# Altium footprint library ABC.PcbLib: 20 footprints (part 2 of 2)
Each footprint in its own frame and in the unit in brackets; x right, y up, seen from the top. Pads: shape width x height; smd on the part's side, far side on the other; paste and mask are expansions set on the pad; w line width, h text height; cw(c..) or ccw(c..) is an arc to the next point about the centre after c.
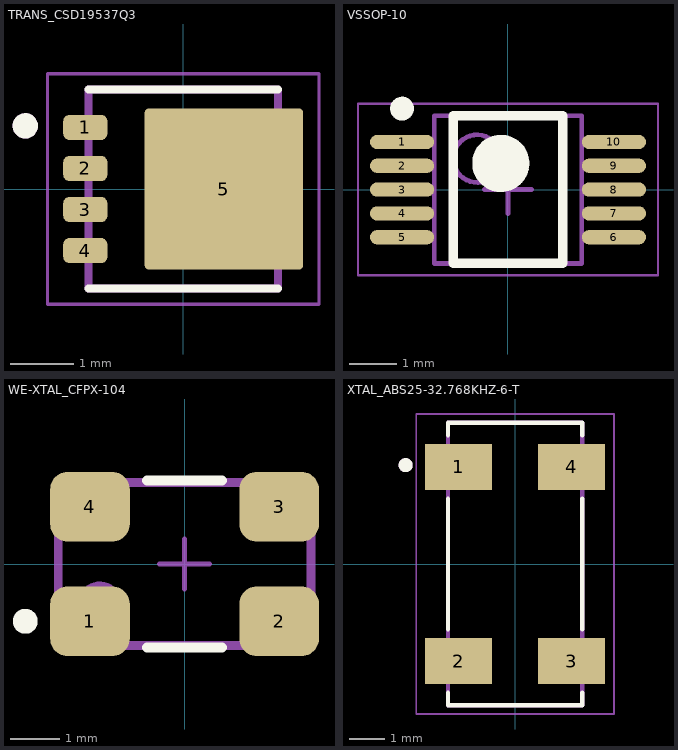
[diagram p1: the footprints below, top view; thin cyan lines are the x and y axes]

## TRANS_CSD19537Q3 [mm]
height 5.5
pads (5):
  rrect50% 0.7x0.4 smd: 1(-1.55,0.975) 2(-1.55,0.325) 3(-1.55,-0.325) 4(-1.55,-0.975)
  rrect5% 2.51x2.55 smd paste+0: 5(0.645,0)
Top Overlay:
  circle w0.2: c-2.5,1 r0.1
  lines w0.127: -1.5,-1.575 1.5,-1.575 ; -1.5,1.575 1.5,1.575
Top Component Outline:
  lines w0.127: -1.5,-1.575 -1.5,1.575 1.5,1.575 1.5,-1.575 -1.5,-1.575
Top Courtyard:
  lines w0.05: -2.15,-1.825 2.15,-1.825 2.15,1.825 -2.15,1.825 -2.15,-1.825
Top 3D Body:
  circle w0.2: c-2.5,1 r0.1
3D body "CSD18543Q3A.STEP": height 0.9, standoff 0, extent -1.65,-1.725 1.65,1.725

## VSSOP-10 [mm] "TSSOP, 10-Leads, Body 3.00x3.00mm, Pitch 0.50mm, IPC Medium Density"
height 1.1
pads (10):
  oval 1.35x0.3 smd: 1(-2.225,1) 2(-2.225,0.5) 3(-2.225,0) 4(-2.225,-0.5) 5(-2.225,-1) 6(2.225,-1) 7(2.225,-0.5) 8(2.225,0) 9(2.225,0.5) 10(2.225,1)
Top Overlay:
  circle w0.6: c-0.15,0.55 r0.3
  circle w0.25: c-2.225,1.7 r0.125
  lines w0.2: -1.15,-1.55 1.15,-1.55 1.15,1.55 -1.15,1.55 -1.15,-1.55
Top Courtyard:
  lines w0.05: -3.15,-1.8 3.15,-1.8 3.15,1.8 -3.15,1.8 -3.15,-1.8
  lines w0.1: -0.5,0 0.5,0 ; 0,-0.5 0,0.5
Top 3D Body:
  circle w0.1: c-0.65,0.65 r0.5
  lines w0.1: -1.55,-1.55 1.55,-1.55 1.55,1.55 -1.55,1.55 -1.55,-1.55
3D body "TSSOP50P490X110-10N.step": height 1.1, standoff 0, extent -2.45,-1.55 2.45,1.55

## WE-XTAL_CFPX-104 [mm] "Quartz Crystal, size CFPX-104, body 5x3.2mm"
height 1
pads (4):
  rrect50% 1.6x1.4 smd: 1(-1.9,-1.15) 2(1.9,-1.15) 3(1.9,1.15) 4(-1.9,1.15)
Top Overlay:
  circle w0.25: c-3.2,-1.15 r0.125
  lines w0.2: -0.75,-1.675 0.75,-1.675 ; -0.75,1.675 0.75,1.675
Top Assembly:
  circle w0.1: c-1.775,-0.875 r0.4
  lines w0.1: -2.575,-1.675 2.575,-1.675 2.575,1.675 -2.575,1.675 -2.575,-1.675
Top 3D Body:
  circle w0.1: c-1.7,-0.8 r0.4
  lines w0.1: -2.5,-1.6 -2.5,1.6 2.5,1.6 2.5,-1.6 -2.5,-1.6
Top Component Center:
  lines w0.1: -0.5,0 0.5,0 ; 0,-0.5 0,0.5
3D body "CFPX-104.stp": height 1, standoff 0, extent -2.5,-1.6 2.5,1.6

## XTAL_ABS25-32.768KHZ-6-T [mm]
pads (4):
  rect 1.9x1.3 smd: 1(-1.6,2.75) 2(-1.6,-2.75) 3(1.6,-2.75) 4(1.6,2.75)
Top Overlay:
  circle w0.2: c-3.1,2.8 r0.1
  lines w0.127: -1.9,-3.65 -1.9,-4 1.9,-4 1.9,-3.65 ; -1.9,-1.85 -1.9,1.85 ; -1.9,3.65 -1.9,4 1.9,4 1.9,3.65 ; 1.9,-1.85 1.9,1.85
Top 3D Body:
  circle w0.2: c-3.1,2.8 r0.1
  lines w0.127: -1.9,-4 1.9,-4 1.9,4 -1.9,4 -1.9,-4
Mechanical 15:
  lines w0.05: -2.8,-4.25 2.8,-4.25 2.8,4.25 -2.8,4.25 -2.8,-4.25
3D body "step_temp.STEP": height 2.75, standoff 0.09, extent -2,-4 2,4